# EAGLE library part BQ40Z60 (library BB8)
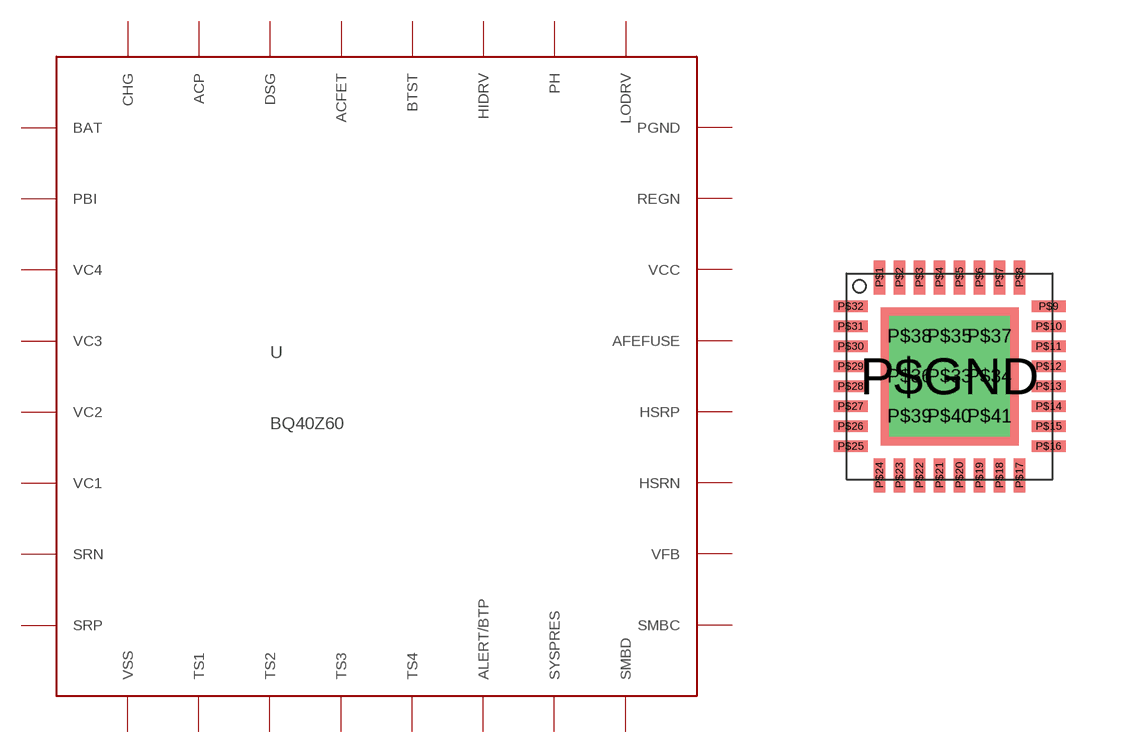
[diagram p11: symbol with the pads of S-PVQFN-N32; footprint S-PVQFN-N32]

Designator prefix U

## BQ40Z60  [S-PVQFN-N32]
P$1  BAT
P$2  PBI
P$3  VC4
P$4  VC3
P$5  VC2
P$6  VC1
P$7  SRN
P$8  SRP
P$9  VSS
P$10  TS1
P$11  TS2
P$12  TS3
P$13  TS4
P$14  ALERT/BTP
P$15  SYSPRES
P$16  SMBD
P$17  SMBC
P$18  VFB
P$19  HSRN
P$20  HSRP
P$21  AFEFUSE
P$22  VCC
P$23  REGN
P$24  PGND
P$25  LODRV
P$26  PH
P$27  HIDRV
P$28  BTST
P$29  ACFET
P$30  ACP
P$31  DSG
P$32  CHG
P$33  PGND
P$34  PGND
P$35  PGND
P$36  PGND
P$37  PGND
P$38  PGND
P$39  PGND
P$40  PGND
P$41  PGND
P$GND  VSS

## Footprint S-PVQFN-N32 (pad centres in mm)
smd 0.28 x 0.85: P$1 -1.75,2.475; P$2 -1.25,2.475; P$3 -0.75,2.475; P$4 -0.25,2.475; P$5 0.25,2.475; P$6 0.75,2.475; P$7 1.25,2.475; P$8 1.75,2.475; P$17 1.75,-2.475; P$18 1.25,-2.475; P$19 0.75,-2.475; P$20 0.25,-2.475; P$21 -0.25,-2.475; P$22 -0.75,-2.475; P$23 -1.25,-2.475; P$24 -1.75,-2.475
smd 0.85 x 0.28: P$9 2.475,1.75; P$10 2.475,1.25; P$11 2.475,0.75; P$12 2.475,0.25; P$13 2.475,-0.25; P$14 2.475,-0.75; P$15 2.475,-1.25; P$16 2.475,-1.75; P$25 -2.475,-1.75; P$26 -2.475,-1.25; P$27 -2.475,-0.75; P$28 -2.475,-0.25; P$29 -2.475,0.25; P$30 -2.475,0.75; P$31 -2.475,1.25; P$32 -2.475,1.75
drill 0.5 pad 1 square: P$33 0,0; P$34 1,0; P$35 0,1; P$36 -1,0; P$37 1,1; P$38 -1,1; P$39 -1,-1; P$40 0,-1; P$41 1,-1
smd 3.45 x 3.45: P$GND 0,0